# Altium footprint library Connectors.PcbLib: 23 footprints (part 2 of 2)
Each footprint in its own frame and in the unit in brackets; x right, y up, seen from the top. Pads: shape width x height; smd on the part's side, far side on the other; paste and mask are expansions set on the pad; w line width, h text height; cw(c..) or ccw(c..) is an arc to the next point about the centre after c.
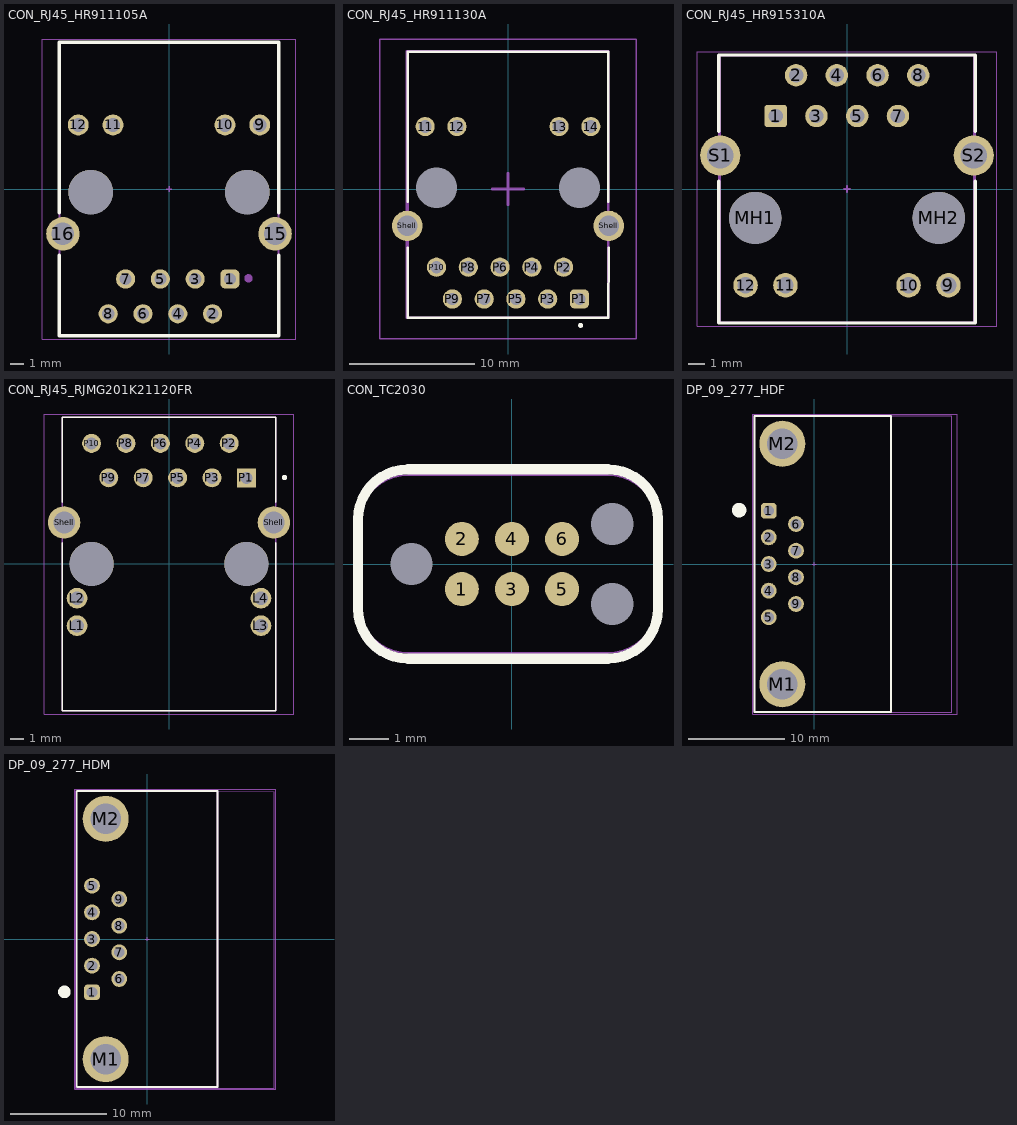
[diagram p1: the footprints below, top view; thin cyan lines are the x and y axes]

## CON_RJ45_HR911105A [mm]
pads (16):
  rrect50% 1.398x1.398 / inner round 1.398 / far side rrect50% 1.398x1.398 hole 0.89: 1(4.45,-6.57)
  round 1.398 hole 0.89: 2(3.18,-9.11) 3(1.91,-6.57) 4(0.64,-9.11) 5(-0.63,-6.57) 6(-1.9,-9.11) 7(-3.17,-6.57) 8(-4.44,-9.11)
  round 1.53 hole 1.02: 9(6.625,4.68) 10(4.085,4.68) 11(-4.085,4.68) 12(-6.625,4.68)
  round 2.445 hole 1.63: 15(7.745,-3.27) 16(-7.745,-3.27)
  round 3.25 hole 3.25 unplated: ""(-5.715,-0.22) ""(5.715,-0.22)
Top Overlay:
  lines w0.254: -8,-4.82 -8,-10.7 8,-10.7 8,-4.82 ; -8,-1.72 -8,10.7 8,10.7 8,-1.72
Top Component Center:
  lines w0.1: -0.198,0 0.002,0 ; 0,-0.2 0,0 ; 0,0.2 0,0 ; 0.2,0 0,0
Top Assembly:
  lines w0.1: -8,-10.715 8,-10.715 8,10.685 -5.1,10.685 -8,10.685 -8,-10.715
Top Designator:
  text ".Designator" at -7.618,-0.507 h1.52
Top 3D Body:
  circle w0.3: c5.8,-6.52 r0.15
  lines w0.127: -8,-10.7 -8,10.7 8,10.7 8,-10.7 -8,-10.7
Top Courtyard:
  lines w0.05: -9.25,-10.95 9.25,-10.95 9.25,10.95 -9.25,10.95 -9.25,-10.95
3D body "step_temp.STEP": height 13.5, standoff -3.05, extent -8.039,-10.634 8.001,10.666

## CON_RJ45_HR911130A [mm]
pads (18):
  round 1.53 hole 1.02: 11(-6.625,4.996) 12(-4.085,4.996) 13(4.085,4.996) 14(6.625,4.996)
  rrect50% 1.54x1.54 hole 0.99: P1(5.715,-8.794)
  round 1.54 hole 0.99: P2(4.445,-6.254) P3(3.175,-8.794) P4(1.905,-6.254) P5(0.635,-8.794) P6(-0.635,-6.254) P7(-1.905,-8.794) P8(-3.175,-6.254) P9(-4.445,-8.794) P10(-5.715,-6.254)
  round 2.445 hole 1.63: Shell(-8.05,-2.954) Shell(8.05,-2.954)
  round 1.625 hole 3.25 unplated: ""(-5.715,0.096) ""(5.715,0.096)
Top Overlay:
  lines w0.2: -8.023,-4.704 -8.023,-10.304 8,-10.304 8.05,-4.704 ; -8.02,-1.004 -8.02,10.996 8.02,10.996 8.02,-1.004 ; 5.7,-10.904 ccw(c5.8,-10.904) 5.9,-10.904 ; 5.715,-10.904 cw(c5.807,-10.904) 5.9,-10.904
Top Component Center:
  lines w0.2: -1.27,0 0,0 ; 0,-1.27 0,0 ; 0,1.27 0,0 ; 1.27,0 0,0
Top Assembly:
  lines w0.2: 8,10.996 8,11 ; 8,11 8,-10.3 -8.1,-10.3 -8.1,11 8,11
Top Designator:
  text ".Designator" at -7.618,-0.508 h1.52
Top 3D Body:
  lines w0.2: -8.02,-10.304 -8.02,10.996 8.02,10.996 8.02,-10.304 -8.02,-10.304
Top Courtyard:
  lines w0.1: -10.273,-11.996 -10.273,11.996 10.273,11.996 10.273,-11.996 -10.273,-11.996
3D body "HR911130A.stp": height 13.45, standoff -3.05, extent -7.94,-10.4 7.94,11

## CON_RJ45_HR915310A [mm]
pads (16):
  rrect25% 1.4x1.4 hole 0.9: 1(-4.445,4.55)
  round 1.4 hole 0.9: 2(-3.175,7.09) 3(-1.905,4.55) 4(-0.635,7.09) 5(0.635,4.55) 6(1.905,7.09) 7(3.175,4.55) 8(4.445,7.09)
  round 1.53 hole 1.02: 9(6.325,-6) 10(3.835,-6) 11(-3.835,-6) 12(-6.325,-6)
  round 3.25 hole 3.25 unplated: MH1(-5.715,-1.8) MH2(5.715,-1.8)
  round 2.5 hole 1.64: S1(-7.9,2.09) S2(7.9,2.09)
Top Overlay:
  lines w0.2: -8,0.5 -8,-8.35 8,-8.35 8,0.5 ; -8,3.6 -8,8.35 8,8.35 8,3.6
Top Component Center:
  lines w0.1: -0.2,0 0,0 ; 0,-0.2 0,0 ; 0,0.2 0,0 ; 0.2,0 0,0
Top Assembly:
  lines w0.1: -7.9,-8.3 -7.9,8.3 7.9,8.3 7.9,-8.3 -7.9,-8.3
Top Designator:
  text ".Designator" at -7.618,-0.508 h1.52
Top 3D Body:
  lines w0.1: -8,-8.35 8,-8.35 8,8.35 -8,8.35 -8,-8.35
Top Courtyard:
  lines w0.05: -9.35,-8.55 9.35,-8.55 9.35,8.55 -9.35,8.55 -9.35,-8.55
3D body "615008138321 (rev1).stp": height 16.57, standoff -3.93, extent -8.025,-8.35 8.025,8.35

## CON_RJ45_RJMG201K21120FR [mm]
height 14.72
pads (18):
  round 1.53 hole 1.02: L1(-6.785,-4.57) L2(-6.785,-2.54) L3(6.785,-4.57) L4(6.785,-2.54)
  rect 1.398x1.398 / inner round 1.398 / far side rect 1.398x1.398 hole 0.89: P1(5.715,6.35)
  round 1.398 hole 0.89: P2(4.445,8.89) P3(3.175,6.35) P4(1.905,8.89) P5(0.635,6.35) P6(-0.635,8.89) P7(-1.905,6.35) P8(-3.175,8.89) P9(-4.445,6.35) P10(-5.715,8.89)
  round 2.4 hole 1.6: Shell(-7.745,3.05) Shell(7.745,3.05)
  round 3.25 hole 3.25 unplated: ""(-5.715,0) ""(5.715,0)
Top Overlay:
  circle w0.2: c8.53,6.37 r0.1
  lines w0.127: -7.875,1.53 -7.875,-10.84 7.875,-10.84 7.875,1.53 ; -7.875,4.57 -7.875,10.81 7.875,10.81 7.875,4.57
Top Designator:
  text ".Designator" at -7.618,-0.523 h1.52
Top 3D Body:
  circle w0.2: c8.53,6.37 r0.1
  lines w0.127: -7.875,-10.84 -7.875,10.81 7.875,10.81 7.875,-10.84 -7.875,-10.84
Top Courtyard:
  lines w0.05: -9.2,-11.09 9.2,-11.09 9.2,11.06 -9.2,11.06 -9.2,-11.09
3D body "RJMG201K21120FR--3DModel-STEP-510211 v1.step": height 14.79, standoff -3.2, extent -8.867,-10.795 8.867,10.855

## CON_TC2030 [mil]
pads (9):
  round 33.98 smd: 1(-50,-25) 2(-50,25) 3(0,-25) 4(0,25) 5(50,-25) 6(50,25)
  round 0 hole 42.01: 7(-100,0) 8(100,-40) 9(100,40)
Top Overlay:
  lines w10: -153.54,-44.49 ccw(c-103.54,-44.49) -103.54,-94.49 95.67,-94.49 ccw(c95.67,-44.49) 145.67,-44.49 145.67,44.49 ccw(c95.67,44.49) 95.67,94.49 66.93,94.49 -103.54,94.49 ccw(c-103.54,44.49) -153.54,44.49 -153.54,-44.49
Top Designator:
  text ".Designator" at -303.84,-19.99 h60
Top 3D Body:
  lines w1.97: -153.54,-44.49 ccw(c-103.54,-44.49) -103.54,-94.49 95.67,-94.49 ccw(c95.67,-44.49) 145.67,-44.49 145.67,44.49 ccw(c95.67,44.49) 95.67,94.49 -103.54,94.49 ccw(c-103.54,44.49) -153.54,44.49 -153.54,0 -153.54,-44.49
Top Courtyard:
  lines w1.97: -153.54,-38.58 ccw(c-103.54,-38.58) -103.54,-88.58 95.67,-88.58 ccw(c95.67,-38.58) 145.67,-38.58 145.67,38.58 ccw(c95.67,38.58) 95.67,88.58 0,88.58 -103.54,88.58 ccw(c-103.54,38.58) -153.54,38.58 -153.54,-38.58

## DP_09_277_HDF [mm]
pads (11):
  rrect50% 1.65x1.65 hole 1.1: 1(-4.72,5.54)
  round 1.65 hole 1.1: 2(-4.72,2.77) 3(-4.72,0) 4(-4.72,-2.77) 5(-4.72,-5.54) 6(-1.88,4.155) 7(-1.88,1.385) 8(-1.88,-1.385) 9(-1.88,-4.155)
  round 4.8 hole 3.2: M1(-3.3,-12.5) M2(-3.3,12.5)
Top Overlay:
  circle w1: c-7.8,5.6 r0.254
  lines w0.2: -6.2,-15.4 8,-15.4 8,15.4 -6.2,15.4 -6.2,-15.4
Top Component Center:
  lines w0.1: -0.2,0 0,0 ; 0,-0.2 0,0 ; 0,0.2 0,0 ; 0.2,0 0,0
Top Assembly:
  lines w0.1: -6.2,-15.4 -6.2,15.4 14.3,15.4 14.3,-15.4 -6.2,-15.4
Top Designator:
  text ".Designator" at -4.432,-0.508 h1.52
Top Courtyard:
  lines w0.05: -6.4,-15.6 14.9,-15.6 14.9,15.6 -6.4,15.6 -6.4,-15.6
3D body "618009231321.stp": height 12.57, standoff -3.77, extent -6.3,-15.41 14.35,15.405

## DP_09_277_HDM [mm]
pads (11):
  rrect50% 1.65x1.65 hole 1.1: 1(-5.735,-5.54)
  round 1.65 hole 1.1: 2(-5.735,-2.77) 3(-5.735,0) 4(-5.735,2.77) 5(-5.735,5.54) 6(-2.895,-4.155) 7(-2.895,-1.385) 8(-2.895,1.385) 9(-2.895,4.155)
  round 4.8 hole 3.2: M1(-4.315,-12.495) M2(-4.315,12.495)
Top Overlay:
  circle w0.8: c-8.6,-5.5 r0.254
  lines w0.2: -7.325,-15.4 -7.325,15.4 7.325,15.4 7.325,-15.4 -7.325,-15.4
Top Component Center:
  lines w0.1: -0.2,0 0,0 ; 0,-0.2 0,0 ; 0,0.2 0,0 ; 0.2,0 0,0
Bottom Component Center:
  lines w0.2: 7.325,-15.4 7.325,15.4
Top Assembly:
  lines w0.1: -7.4,-15.5 13.2,-15.5 13.2,15.3 -7.4,15.4 -7.4,-15.5
Top Designator:
  text ".Designator" at -5.532,-0.508 h1.52
Top Courtyard:
  lines w0.05: -7.525,-15.6 -7.525,15.6 13.4,15.6 13.4,-15.6 -7.525,-15.6
3D body "618009231421.stp": height 12.57, standoff -3.77, extent -7.4,-15.505 13.25,15.305